# EAGLE library part ATXMEGA32A4U (library Atmel)
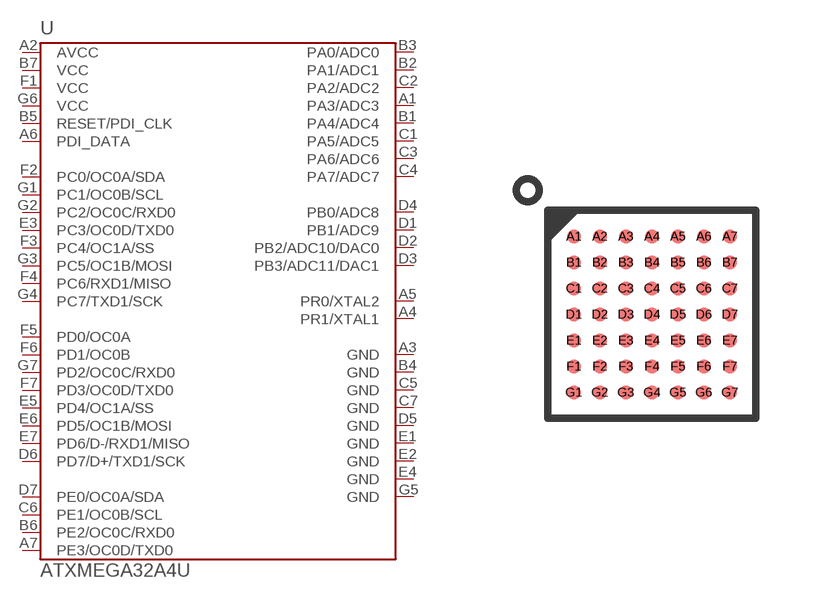
[diagram p0: symbol with the pads of VFBGA-49; footprint VFBGA-49]

Designator prefix U

## ATXMEGA32A4U  [VFBGA-49]
A1  PA3/ADC3
A2  AVCC
A3  GND
A4  PR1/XTAL1
A5  PR0/XTAL2
A6  PDI_DATA
A7  PE3/OC0D/TXD0
B1  PA4/ADC4
B2  PA1/ADC1
B3  PA0/ADC0
B4  GND
B5  RESET/PDI_CLK
B6  PE2/OC0C/RXD0
B7  VCC
C1  PA5/ADC5
C2  PA2/ADC2
C3  PA6/ADC6
C4  PA7/ADC7
C5  GND
C6  PE1/OC0B/SCL
C7  GND
D1  PB1/ADC9
D2  PB2/ADC10/DAC0
D3  PB3/ADC11/DAC1
D4  PB0/ADC8
D5  GND
D6  PD7/D+/TXD1/SCK
D7  PE0/OC0A/SDA
E1  GND
E2  GND
E3  PC3/OC0D/TXD0
E4  GND
E5  PD4/OC1A/SS
E6  PD5/OC1B/MOSI
E7  PD6/D-/RXD1/MISO
F1  VCC
F2  PC0/OC0A/SDA
F3  PC4/OC1A/SS
F4  PC6/RXD1/MISO
F5  PD0/OC0A
F6  PD1/OC0B
F7  PD3/OC0D/TXD0
G1  PC1/OC0B/SCL
G2  PC2/OC0C/RXD0
G3  PC5/OC1B/MOSI
G4  PC7/TXD1/SCK
G5  GND
G6  VCC
G7  PD2/OC0C/RXD0

## Footprint VFBGA-49 (pad centres in mm)
smd 0.35 x 0.35: A1 -1.95,1.95; A2 -1.3,1.95; A3 -0.65,1.95; A4 0,1.95; A5 0.65,1.95; A6 1.3,1.95; A7 1.95,1.95; B1 -1.95,1.3; B2 -1.3,1.3; B3 -0.65,1.3; B4 0,1.3; B5 0.65,1.3; B6 1.3,1.3; B7 1.95,1.3; C1 -1.95,0.65; C2 -1.3,0.65; C3 -0.65,0.65; C4 0,0.65; C5 0.65,0.65; C6 1.3,0.65; C7 1.95,0.65; D1 -1.95,0; D2 -1.3,0; D3 -0.65,0; D4 0,0; D5 0.65,0; D6 1.3,0; D7 1.95,0; E1 -1.95,-0.65; E2 -1.3,-0.65; E3 -0.65,-0.65; E4 0,-0.65; E5 0.65,-0.65; E6 1.3,-0.65; E7 1.95,-0.65; F1 -1.95,-1.3; F2 -1.3,-1.3; F3 -0.65,-1.3; F4 0,-1.3; F5 0.65,-1.3; F6 1.3,-1.3; F7 1.95,-1.3; G1 -1.95,-1.95; G2 -1.3,-1.95; G3 -0.65,-1.95; G4 0,-1.95; G5 0.65,-1.95; G6 1.3,-1.95; G7 1.95,-1.95